# Altium schematic symbol library jst-pa.SchLib: 3 symbols
Pins are listed as number, name and electrical type; pins without a type are passive.

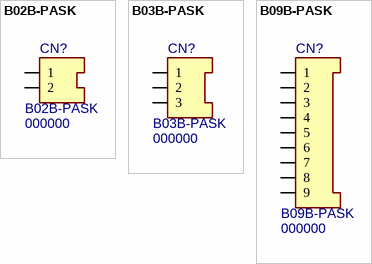
[diagram p0: symbols B02B-PASK to B09B-PASK]

## B02B-PASK
designator CN?, comment 000000  value B02B-PASK
2 pos, 2.0mm Wire to Board Connector; MF PN: B02B-PASK(LF)(SN); MF: JST; PN: 000000; Package: *; ExtraInfo: *; Price: 0.18148; Digi-Key PN: 455-1817-ND
footprint B02B-PASK (2 pos, 2.0mm Wire to Board Connector)
pins: 1, 2

## B03B-PASK
designator CN?, comment 000000  value B03B-PASK
3 pos, 2.0mm Wire to Board Connector; MF PN: B03B-PASK(LF)(SN); MF: JST; PN: 000000; Package: *; ExtraInfo: *; Price: 0.21512; Digi-Key PN: 455-1818-ND
footprint B03B-PASK (3 pos, 2.0mm Wire to Board Connector)
pins: 1, 2, 3

## B09B-PASK
designator CN?, comment 000000  value B09B-PASK
9 pos, 2.0mm Wire to Board Connector; MF PN: B09B-PASK(LF)(SN); MF: JST; PN: 000000; Package: *; ExtraInfo: *; Price: 0.46142; Digi-Key PN: 455-1824-ND
footprint B09B-PASK (9 pos, 2.0mm Wire to Board Connector)
pins: 1, 2, 3, 4, 5, 6, 7, 8, 9